# EAGLE library part 74LVC1G3157 (library ds_ic_logic)
Analog Switch
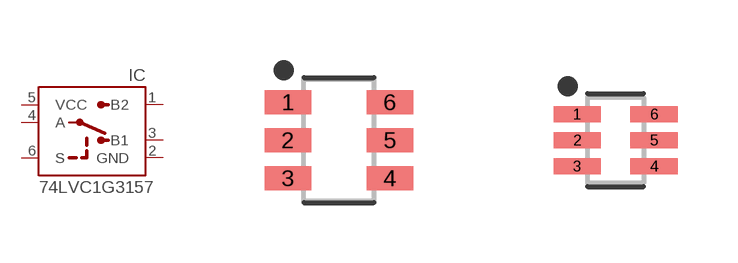
[diagram p15: symbol with the pads of SOT95P280X145-6N; footprints SOT95P280X145-6N, SC70-6]

Designator prefix IC

## 74LVC1G3157DBVR  [SOT95P280X145-6N]
1  B2
2  GND
3  B1
4  A
5  VCC
6  S

## 74LVC1G3157DCKR  [SC70-6]
Pads as for SOT95P280X145-6N

## Footprint SOT95P280X145-6N (pad centres in mm)
6-SOT23, 0.95 mm pitch, 2.80 mm span, 2.92 X 1.63 X 1.45 mm body 6-pin SOT23 package with 0.95 mm pitch, 2.80 mm span with body size 2.92 X 1.63 X 1.45 mm
smd 1.165 x 0.597: 1 -1.275,0.95; 2 -1.275,0; 3 -1.275,-0.95; 4 1.275,-0.95; 5 1.275,0; 6 1.275,0.95

## Footprint SC70-6 (pad centres in mm)
6-SOT23, 0.65 mm pitch, 2.10 mm span, 2.00 X 1.25 X 1.10 mm body 6-pin SOT23 package with 0.65 mm pitch, 2.10 mm span with body size 2.00 X 1.25 X 1.10 mm
smd 1.186 x 0.397: 1 -0.962,0.65; 2 -0.962,0; 3 -0.962,-0.65; 4 0.962,-0.65; 5 0.962,0; 6 0.962,0.65